# Altium footprint library MolexMicroFit3_2_POS.PcbLib: 1 footprints
Each footprint in its own frame and in the unit in brackets; x right, y up, seen from the top. Pads: shape width x height; smd on the part's side, far side on the other; paste and mask are expansions set on the pad; w line width, h text height; cw(c..) or ccw(c..) is an arc to the next point about the centre after c.
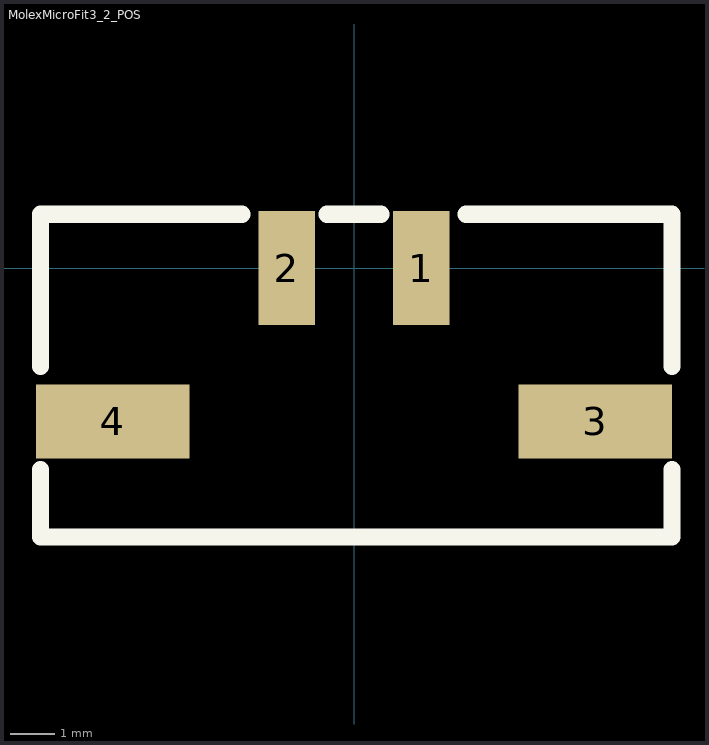
[diagram p0: the footprint, top view; thin cyan lines are the x and y axes]

## MolexMicroFit3_2_POS [mm]
pads (4):
  rect 1.27x2.54 smd: 1(1.5,0) 2(-1.5,0)
  rect 3.43x1.65 smd: 3(5.385,-3.42) 4(-5.385,-3.42)
Top Overlay:
  lines w0.381: -7,-4.5 -7,-6 7.1,-6 7.1,-4.5 ; -7,-2.2 -7,1.2 -2.5,1.2 ; -0.6,1.2 0.6,1.2 ; 2.5,1.2 7.1,1.2 7.1,-2.2
3D body "436500224.stp": height 9.94, standoff 0.01, extent -6.825,-5.89 6.825,0.68
3D body: height 0.7, standoff 0, extent 0.4,-3.8 0.4,-3.8